# EAGLE library part IC_144 (library Atmel_Prototype_Header)
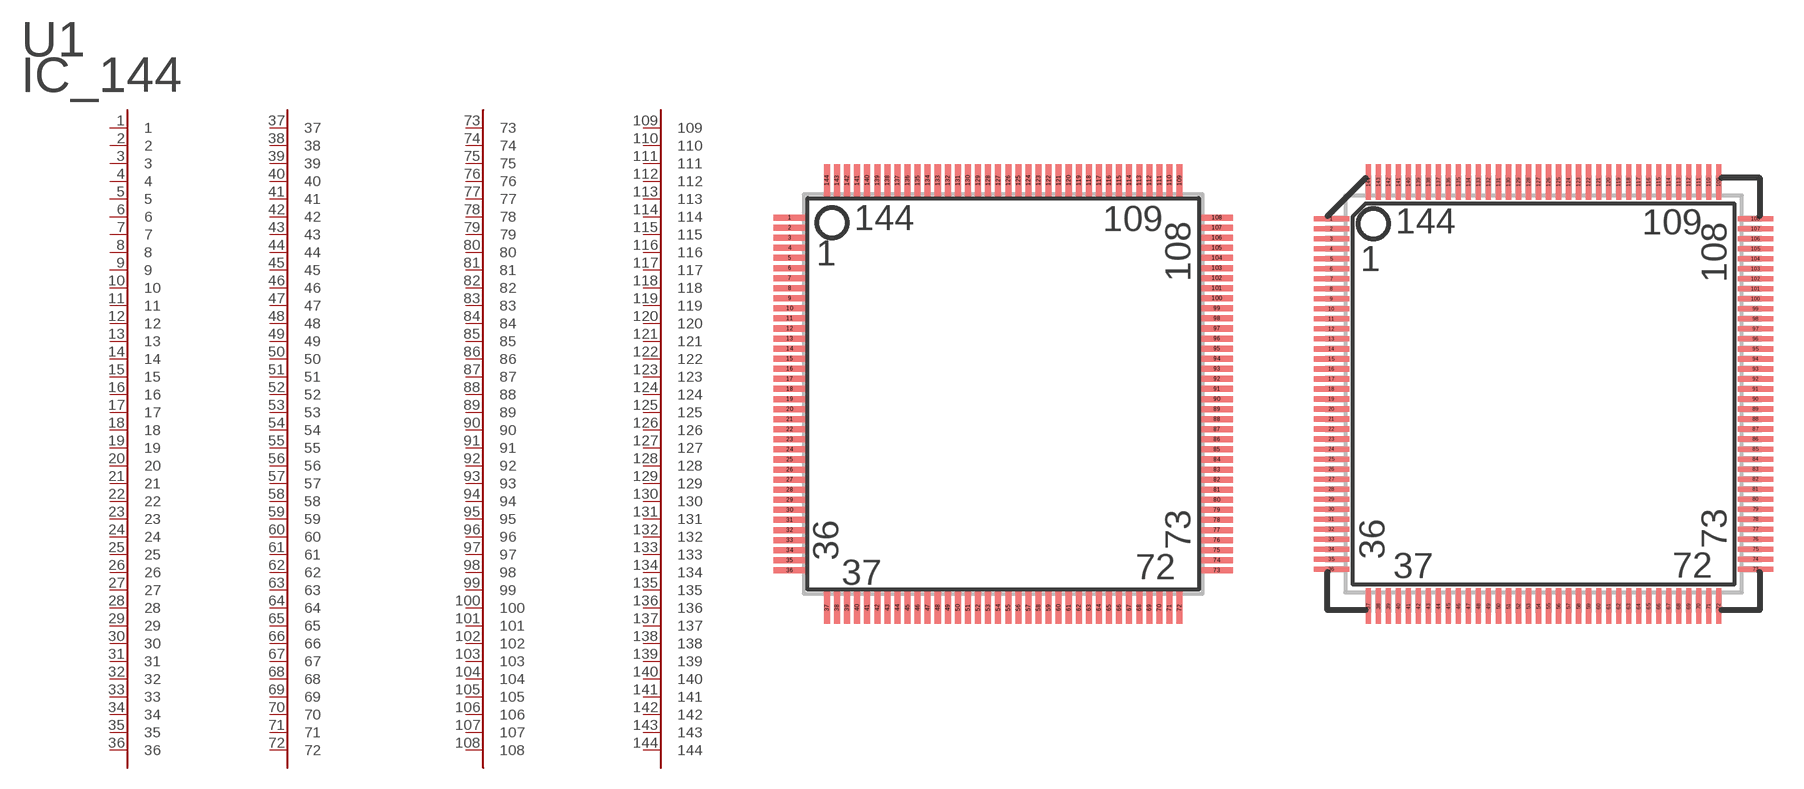
[diagram p13: symbol with the pads of TQFP144; footprints TQFP144, TQFP144_EZ]

Designator prefix U; gates 1=IC_BAR_144_36 2=IC_BAR_144_72 3=IC_BAR_144_108 4=IC_BAR_144_144

## IC_144_TQFP  [TQFP144]
1  1:1
2  1:2
3  1:3
4  1:4
5  1:5
6  1:6
7  1:7
8  1:8
9  1:9
10  1:10
11  1:11
12  1:12
13  1:13
14  1:14
15  1:15
16  1:16
17  1:17
18  1:18
19  1:19
20  1:20
21  1:21
22  1:22
23  1:23
24  1:24
25  1:25
26  1:26
27  1:27
28  1:28
29  1:29
30  1:30
31  1:31
32  1:32
33  1:33
34  1:34
35  1:35
36  1:36
37  2:37
38  2:38
39  2:39
40  2:40
41  2:41
42  2:42
43  2:43
44  2:44
45  2:45
46  2:46
47  2:47
48  2:48
49  2:49
50  2:50
51  2:51
52  2:52
53  2:53
54  2:54
55  2:55
56  2:56
57  2:57
58  2:58
59  2:59
60  2:60
61  2:61
62  2:62
63  2:63
64  2:64
65  2:65
66  2:66
67  2:67
68  2:68
69  2:69
70  2:70
71  2:71
72  2:72
73  3:73
74  3:74
75  3:75
76  3:76
77  3:77
78  3:78
79  3:79
80  3:80
81  3:81
82  3:82
83  3:83
84  3:84
85  3:85
86  3:86
87  3:87
88  3:88
89  3:89
90  3:90
91  3:91
92  3:92
93  3:93
94  3:94
95  3:95
96  3:96
97  3:97
98  3:98
99  3:99
100  3:100
101  3:101
102  3:102
103  3:103
104  3:104
105  3:105
106  3:106
107  3:107
108  3:108
109  4:109
110  4:110
111  4:111
112  4:112
113  4:113
114  4:114
115  4:115
116  4:116
117  4:117
118  4:118
119  4:119
120  4:120
121  4:121
122  4:122
123  4:123
124  4:124
125  4:125
126  4:126
127  4:127
128  4:128
129  4:129
130  4:130
131  4:131
132  4:132
133  4:133
134  4:134
135  4:135
136  4:136
137  4:137
138  4:138
139  4:139
140  4:140
141  4:141
142  4:142
143  4:143
144  4:144

## IC_144TQFP_EZ  [TQFP144_EZ]
Pads as for TQFP144

## IC_144_43  [HEADER_DUALSQR144_43]
Pads as for TQFP144

## Footprint TQFP144 (pad centres in mm)
QFP144 shrink quad flat pack, square (smd-ipc)
smd 1.6 x 0.3: 1 -10.6,8.75; 2 -10.6,8.25; 3 -10.6,7.75; 4 -10.6,7.25; 5 -10.6,6.75; 6 -10.6,6.25; 7 -10.6,5.75; 8 -10.6,5.25; 9 -10.6,4.75; 10 -10.6,4.25; 11 -10.6,3.75; 12 -10.6,3.25; 13 -10.6,2.75; 14 -10.6,2.25; 15 -10.6,1.75; 16 -10.6,1.25; 17 -10.6,0.75; 18 -10.6,0.25; 19 -10.6,-0.25; 20 -10.6,-0.75; 21 -10.6,-1.25; 22 -10.6,-1.75; 23 -10.6,-2.25; 24 -10.6,-2.75; 25 -10.6,-3.25; 26 -10.6,-3.75; 27 -10.6,-4.25; 28 -10.6,-4.75; 29 -10.6,-5.25; 30 -10.6,-5.75; 31 -10.6,-6.25; 32 -10.6,-6.75; 33 -10.6,-7.25; 34 -10.6,-7.75; 35 -10.6,-8.25; 36 -10.6,-8.75; 73 10.6,-8.75; 74 10.6,-8.25; 75 10.6,-7.75; 76 10.6,-7.25; 77 10.6,-6.75; 78 10.6,-6.25; 79 10.6,-5.75; 80 10.6,-5.25; 81 10.6,-4.75; 82 10.6,-4.25; 83 10.6,-3.75; 84 10.6,-3.25; 85 10.6,-2.75; 86 10.6,-2.25; 87 10.6,-1.75; 88 10.6,-1.25; 89 10.6,-0.75; 90 10.6,-0.25; 91 10.6,0.25; 92 10.6,0.75; 93 10.6,1.25; 94 10.6,1.75; 95 10.6,2.25; 96 10.6,2.75; 97 10.6,3.25; 98 10.6,3.75; 99 10.6,4.25; 100 10.6,4.75; 101 10.6,5.25; 102 10.6,5.75; 103 10.6,6.25; 104 10.6,6.75; 105 10.6,7.25; 106 10.6,7.75; 107 10.6,8.25; 108 10.6,8.75
smd 0.3 x 1.6: 37 -8.75,-10.6; 38 -8.25,-10.6; 39 -7.75,-10.6; 40 -7.25,-10.6; 41 -6.75,-10.6; 42 -6.25,-10.6; 43 -5.75,-10.6; 44 -5.25,-10.6; 45 -4.75,-10.6; 46 -4.25,-10.6; 47 -3.75,-10.6; 48 -3.25,-10.6; 49 -2.75,-10.6; 50 -2.25,-10.6; 51 -1.75,-10.6; 52 -1.25,-10.6; 53 -0.75,-10.6; 54 -0.25,-10.6; 55 0.25,-10.6; 56 0.75,-10.6; 57 1.25,-10.6; 58 1.75,-10.6; 59 2.25,-10.6; 60 2.75,-10.6; 61 3.25,-10.6; 62 3.75,-10.6; 63 4.25,-10.6; 64 4.75,-10.6; 65 5.25,-10.6; 66 5.75,-10.6; 67 6.25,-10.6; 68 6.75,-10.6; 69 7.25,-10.6; 70 7.75,-10.6; 71 8.25,-10.6; 72 8.75,-10.6; 109 8.75,10.6; 110 8.25,10.6; 111 7.75,10.6; 112 7.25,10.6; 113 6.75,10.6; 114 6.25,10.6; 115 5.75,10.6; 116 5.25,10.6; 117 4.75,10.6; 118 4.25,10.6; 119 3.75,10.6; 120 3.25,10.6; 121 2.75,10.6; 122 2.25,10.6; 123 1.75,10.6; 124 1.25,10.6; 125 0.75,10.6; 126 0.25,10.6; 127 -0.25,10.6; 128 -0.75,10.6; 129 -1.25,10.6; 130 -1.75,10.6; 131 -2.25,10.6; 132 -2.75,10.6; 133 -3.25,10.6; 134 -3.75,10.6; 135 -4.25,10.6; 136 -4.75,10.6; 137 -5.25,10.6; 138 -5.75,10.6; 139 -6.25,10.6; 140 -6.75,10.6; 141 -7.25,10.6; 142 -7.75,10.6; 143 -8.25,10.6; 144 -8.75,10.6

## Footprint TQFP144_EZ (pad centres in mm)
smd 1.778 x 0.254: 1 -10.6,8.75; 2 -10.6,8.25; 3 -10.6,7.75; 4 -10.6,7.25; 5 -10.6,6.75; 6 -10.6,6.25; 7 -10.6,5.75; 8 -10.6,5.25; 9 -10.6,4.75; 10 -10.6,4.25; 11 -10.6,3.75; 12 -10.6,3.25; 13 -10.6,2.75; 14 -10.6,2.25; 15 -10.6,1.75; 16 -10.6,1.25; 17 -10.6,0.75; 18 -10.6,0.25; 19 -10.6,-0.25; 20 -10.6,-0.75; 21 -10.6,-1.25; 22 -10.6,-1.75; 23 -10.6,-2.25; 24 -10.6,-2.75; 25 -10.6,-3.25; 26 -10.6,-3.75; 27 -10.6,-4.25; 28 -10.6,-4.75; 29 -10.6,-5.25; 30 -10.6,-5.75; 31 -10.6,-6.25; 32 -10.6,-6.75; 33 -10.6,-7.25; 34 -10.6,-7.75; 35 -10.6,-8.25; 36 -10.6,-8.75; 73 10.6,-8.75; 74 10.6,-8.25; 75 10.6,-7.75; 76 10.6,-7.25; 77 10.6,-6.75; 78 10.6,-6.25; 79 10.6,-5.75; 80 10.6,-5.25; 81 10.6,-4.75; 82 10.6,-4.25; 83 10.6,-3.75; 84 10.6,-3.25; 85 10.6,-2.75; 86 10.6,-2.25; 87 10.6,-1.75; 88 10.6,-1.25; 89 10.6,-0.75; 90 10.6,-0.25; 91 10.6,0.25; 92 10.6,0.75; 93 10.6,1.25; 94 10.6,1.75; 95 10.6,2.25; 96 10.6,2.75; 97 10.6,3.25; 98 10.6,3.75; 99 10.6,4.25; 100 10.6,4.75; 101 10.6,5.25; 102 10.6,5.75; 103 10.6,6.25; 104 10.6,6.75; 105 10.6,7.25; 106 10.6,7.75; 107 10.6,8.25; 108 10.6,8.75
smd 0.254 x 1.778: 37 -8.75,-10.6; 38 -8.25,-10.6; 39 -7.75,-10.6; 40 -7.25,-10.6; 41 -6.75,-10.6; 42 -6.25,-10.6; 43 -5.75,-10.6; 44 -5.25,-10.6; 45 -4.75,-10.6; 46 -4.25,-10.6; 47 -3.75,-10.6; 48 -3.25,-10.6; 49 -2.75,-10.6; 50 -2.25,-10.6; 51 -1.75,-10.6; 52 -1.25,-10.6; 53 -0.75,-10.6; 54 -0.25,-10.6; 55 0.25,-10.6; 56 0.75,-10.6; 57 1.25,-10.6; 58 1.75,-10.6; 59 2.25,-10.6; 60 2.75,-10.6; 61 3.25,-10.6; 62 3.75,-10.6; 63 4.25,-10.6; 64 4.75,-10.6; 65 5.25,-10.6; 66 5.75,-10.6; 67 6.25,-10.6; 68 6.75,-10.6; 69 7.25,-10.6; 70 7.75,-10.6; 71 8.25,-10.6; 72 8.75,-10.6; 109 8.75,10.6; 110 8.25,10.6; 111 7.75,10.6; 112 7.25,10.6; 113 6.75,10.6; 114 6.25,10.6; 115 5.75,10.6; 116 5.25,10.6; 117 4.75,10.6; 118 4.25,10.6; 119 3.75,10.6; 120 3.25,10.6; 121 2.75,10.6; 122 2.25,10.6; 123 1.75,10.6; 124 1.25,10.6; 125 0.75,10.6; 126 0.25,10.6; 127 -0.25,10.6; 128 -0.75,10.6; 129 -1.25,10.6; 130 -1.75,10.6; 131 -2.25,10.6; 132 -2.75,10.6; 133 -3.25,10.6; 134 -3.75,10.6; 135 -4.25,10.6; 136 -4.75,10.6; 137 -5.25,10.6; 138 -5.75,10.6; 139 -6.25,10.6; 140 -6.75,10.6; 141 -7.25,10.6; 142 -7.75,10.6; 143 -8.25,10.6; 144 -8.75,10.6

## Footprint HEADER_DUALSQR144_43 (pad centres in mm)
drill 1.1 square: 1 -26.67,21.59
drill 1.1 round: 2 -24.13,21.59; 3 -26.67,19.05; 4 -24.13,19.05; 5 -26.67,16.51; 6 -24.13,16.51; 7 -26.67,13.97; 8 -24.13,13.97; 9 -26.67,11.43; 10 -24.13,11.43; 11 -26.67,8.89; 12 -24.13,8.89; 13 -26.67,6.35; 14 -24.13,6.35; 15 -26.67,3.81; 16 -24.13,3.81; 17 -26.67,1.27; 18 -24.13,1.27; 19 -26.67,-1.27; 20 -24.13,-1.27; 21 -26.67,-3.81; 22 -24.13,-3.81; 23 -26.67,-6.35; 24 -24.13,-6.35; 25 -26.67,-8.89; 26 -24.13,-8.89; 27 -26.67,-11.43; 28 -24.13,-11.43; 29 -26.67,-13.97; 30 -24.13,-13.97; 31 -26.67,-16.51; 32 -24.13,-16.51; 33 -26.67,-19.05; 34 -24.13,-19.05; 35 -26.67,-21.59; 36 -24.13,-21.59; 37 -21.59,-26.67; 38 -21.59,-24.13; 39 -19.05,-26.67; 40 -19.05,-24.13; 41 -16.51,-26.67; 42 -16.51,-24.13; 43 -13.97,-26.67; 44 -13.97,-24.13; 45 -11.43,-26.67; 46 -11.43,-24.13; 47 -8.89,-26.67; 48 -8.89,-24.13; 49 -6.35,-26.67; 50 -6.35,-24.13; 51 -3.81,-26.67; 52 -3.81,-24.13; 53 -1.27,-26.67; 54 -1.27,-24.13; 55 1.27,-26.67; 56 1.27,-24.13; 57 3.81,-26.67; 58 3.81,-24.13; 59 6.35,-26.67; 60 6.35,-24.13; 61 8.89,-26.67; 62 8.89,-24.13; 63 11.43,-26.67; 64 11.43,-24.13; 65 13.97,-26.67; 66 13.97,-24.13; 67 16.51,-26.67; 68 16.51,-24.13; 69 19.05,-26.67; 70 19.05,-24.13; 71 21.59,-26.67; 72 21.59,-24.13; 73 26.67,-21.59; 74 24.13,-21.59; 75 26.67,-19.05; 76 24.13,-19.05; 77 26.67,-16.51; 78 24.13,-16.51; 79 26.67,-13.97; 80 24.13,-13.97; 81 26.67,-11.43; 82 24.13,-11.43; 83 26.67,-8.89; 84 24.13,-8.89; 85 26.67,-6.35; 86 24.13,-6.35; 87 26.67,-3.81; 88 24.13,-3.81; 89 26.67,-1.27; 90 24.13,-1.27; 91 26.67,1.27; 92 24.13,1.27; 93 26.67,3.81; 94 24.13,3.81; 95 26.67,6.35; 96 24.13,6.35; 97 26.67,8.89; 98 24.13,8.89; 99 26.67,11.43; 100 24.13,11.43; 101 26.67,13.97; 102 24.13,13.97; 103 26.67,16.51; 104 24.13,16.51; 105 26.67,19.05; 106 24.13,19.05; 107 26.67,21.59; 108 24.13,21.59; 109 21.59,26.67; 110 21.59,24.13; 111 19.05,26.67; 112 19.05,24.13; 113 16.51,26.67; 114 16.51,24.13; 115 13.97,26.67; 116 13.97,24.13; 117 11.43,26.67; 118 11.43,24.13; 119 8.89,26.67; 120 8.89,24.13; 121 6.35,26.67; 122 6.35,24.13; 123 3.81,26.67; 124 3.81,24.13; 125 1.27,26.67; 126 1.27,24.13; 127 -1.27,26.67; 128 -1.27,24.13; 129 -3.81,26.67; 130 -3.81,24.13; 131 -6.35,26.67; 132 -6.35,24.13; 133 -8.89,26.67; 134 -8.89,24.13; 135 -11.43,26.67; 136 -11.43,24.13; 137 -13.97,26.67; 138 -13.97,24.13; 139 -16.51,26.67; 140 -16.51,24.13; 141 -19.05,26.67; 142 -19.05,24.13; 143 -21.59,26.67; 144 -21.59,24.13